# Altium schematic symbol library SWITCH_3D.SchLib: 10 symbols
Pins are listed as number, name and electrical type; pins without a type are passive.

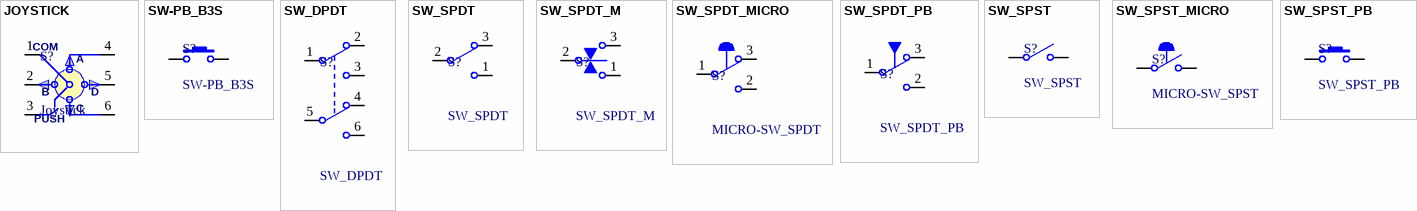
[diagram p0: symbols JOYSTICK to SW_SPST_PB]

## JOYSTICK
designator S?, comment Joystick
SPDT Subminiature Toggle Switch, Right Angle Mounting, Vertical Actuation
footprint JOYSTICK (Joystick 4 Direction + Push)
pins: 1 COM, 2 B, 3 PUSH, 4 A, 5 D, 6 C

## SW-PB_B3S
designator S?
Switch; Published: 24-Mar-1999; LatestRevisionDate: 17-Jul-2002; LatestRevisionNote: Re-released for DXP Platform.; PackageReference: SPST-2; Publisher: Altium Limited
footprint B3S (Push Button)
pins: 1, 3

## SW_DPDT
designator S?
Switch DPDT
pins: 1 COMMON1, 2 NC1, 3 NO1, 4 NC2, 5 COMMON2, 6 NO2

## SW_SPDT
designator S?
Switch SPDT
footprint C-K_SW (SPDT Switch)
pins: 1 ON, 2 COM, 3 ON

## SW_SPDT_M
designator S?
Switch SPDT
footprint C-K_SW (SPDT Switch)
pins: 1 ON, 2 COM, 3 ON

## SW_SPDT_MICRO
designator S?, comment MICRO-SW_SPDT
Micro-Switch SPDT
footprint D2MQ-4L-1-R (OMRON Micro-Switch SPDT)
pins: 1 COM, 2 NO, 3 NC

## SW_SPDT_PB
designator S?
Switch SPDT
footprint C-K_SW_PB (SPST Push Button)
pins: 1 COM, 2 NO, 3 NC

## SW_SPST
designator S?
Switch SPST
pins: 1 COMMON, 2 NO

## SW_SPST_MICRO
designator S?, comment MICRO-SW_SPST
Micro-Switch SPST
pins: 1 COMMON, 2 NO

## SW_SPST_PB
designator S?
Switch PB
footprint BOURNS_SPST_NO (BOURNS 7914J-001-000)
pins: 1, 2